# EAGLE library part TLV767-Q1 (library Harrington-ICs v130)
Linear Regulator Texas Instruments - Input Voltage: 2.5-16V - Output Voltage: 0.8-14.6V - Max Current: 1A
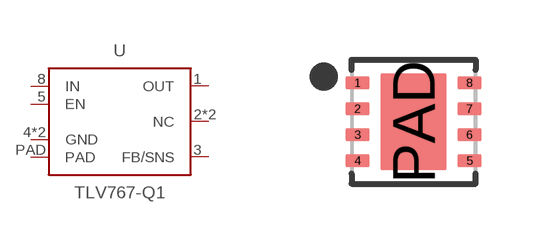
[diagram p5: symbol with the pads of VSON; footprint VSON]

Designator prefix U

## TLV767-Q1-3.3V, TLV767-Q1-6V  [VSON]
1  OUT  pwr
2  NC  nc
3  FB/SNS  in
4  GND  pwr
5  EN  in
6  GND  pwr
7  NC  nc
8  IN  pwr
PAD  PAD  pwr

## Footprint VSON (pad centres in mm)
smd 0.6 x 0.31: 1 -1.4,0.975; 2 -1.4,0.325; 3 -1.4,-0.325; 4 -1.4,-0.975; 5 1.4,-0.975; 6 1.4,-0.325; 7 1.4,0.325; 8 1.4,0.975
smd 1.65 x 2.4: PAD 0,0